# Altium integrated library Altium Database Library V2.IntLib: 825 symbols (part 35 of 40)

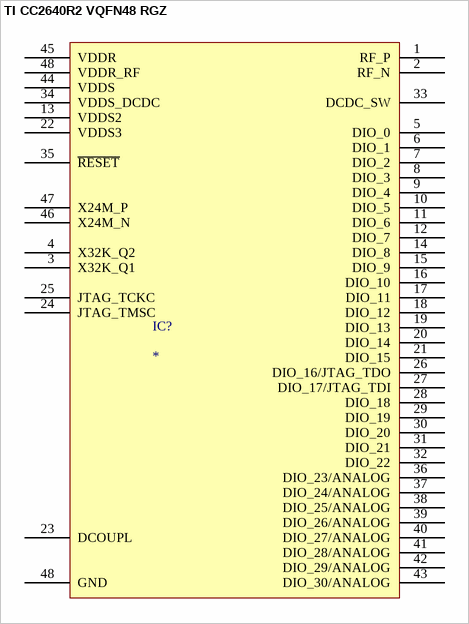
[diagram p702: symbol TI CC2640R2 VQFN48 RGZ]

## TI CC2640R2 VQFN48 RGZ
designator IC?
pins: 1 RF_P, 2 RF_N, 3 X32K_Q1, 4 X32K_Q2, 5 DIO_0, 6 DIO_1, 7 DIO_2, 8 DIO_3, 9 DIO_4, 10 DIO_5, 11 DIO_6, 12 DIO_7, 13 VDDS2, 14 DIO_8, 15 DIO_9, 16 DIO_10, 17 DIO_11, 18 DIO_12, 19 DIO_13, 20 DIO_14, 21 DIO_15, 22 VDDS3, 23 DCOUPL, 24 JTAG_TMSC, 25 JTAG_TCKC, 26 DIO_16/JTAG_TDO, 27 DIO_17/JTAG_TDI, 28 DIO_18, 29 DIO_19, 30 DIO_20, 31 DIO_21, 32 DIO_22, 33 DCDC_SW, 34 VDDS_DCDC, 35 ~{RESET}, 36 DIO_23/ANALOG, 37 DIO_24/ANALOG, 38 DIO_25/ANALOG, 39 DIO_26/ANALOG, 40 DIO_27/ANALOG, 41 DIO_28/ANALOG, 42 DIO_29/ANALOG, 43 DIO_30/ANALOG, 44 VDDS, 45 VDDR, 46 X24M_N, 47 X24M_P, 48 VDDR_RF, 48 GND


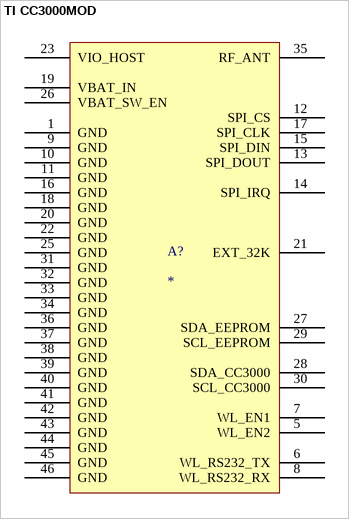
[diagram p703: symbol TI CC3000MOD]

## TI CC3000MOD
designator A?
pins: 1 GND, 5 WL_EN2, 6 WL_RS232_TX, 7 WL_EN1, 8 WL_RS232_RX, 9 GND, 10 GND, 11 GND, 12 SPI_CS, 13 SPI_DOUT, 14 SPI_IRQ, 15 SPI_DIN, 16 GND, 17 SPI_CLK, 18 GND, 19 VBAT_IN, 20 GND, 21 EXT_32K, 22 GND, 23 VIO_HOST, 25 GND, 26 VBAT_SW_EN, 27 SDA_EEPROM, 28 SDA_CC3000, 29 SCL_EEPROM, 30 SCL_CC3000, 31 GND, 32 GND, 33 GND, 34 GND, 35 RF_ANT, 36 GND, 37 GND, 38 GND, 39 GND, 40 GND, 41 GND, 42 GND, 43 GND, 44 GND, 45 GND, 46 GND, GND 40 hidden to Passive


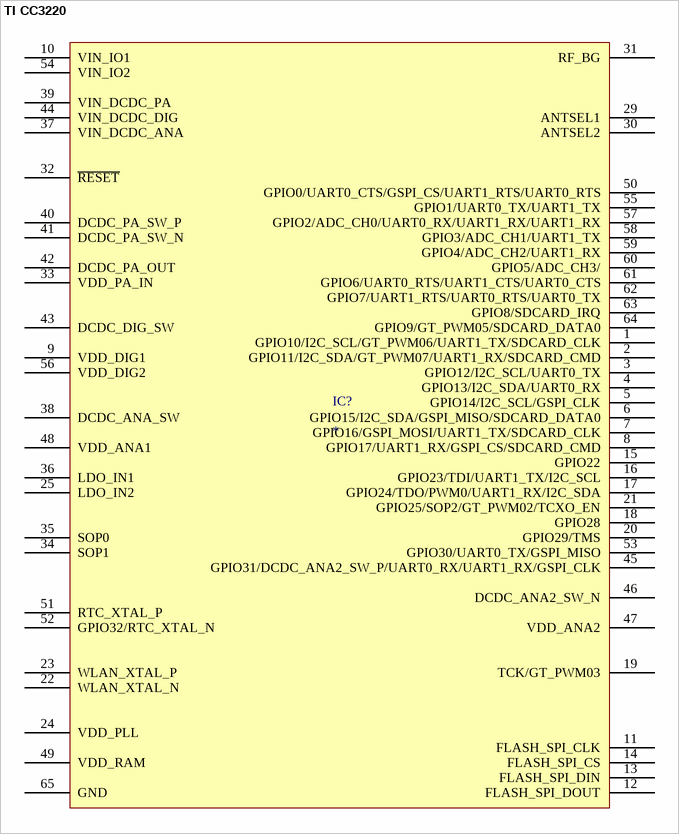
[diagram p704: symbol TI CC3220]

## TI CC3220
designator IC?
pins: 1 GPIO10/I2C_SCL/GT_PWM06/UART1_TX/SDCARD_CLK, 2 GPIO11/I2C_SDA/GT_PWM07/UART1_RX/SDCARD_CMD, 3 GPIO12/I2C_SCL/UART0_TX, 4 GPIO13/I2C_SDA/UART0_RX, 5 GPIO14/I2C_SCL/GSPI_CLK, 6 GPIO15/I2C_SDA/GSPI_MISO/SDCARD_DATA0, 7 GPIO16/GSPI_MOSI/UART1_TX/SDCARD_CLK, 8 GPIO17/UART1_RX/GSPI_CS/SDCARD_CMD, 9 VDD_DIG1, 10 VIN_IO1, 11 FLASH_SPI_CLK, 12 FLASH_SPI_DOUT, 13 FLASH_SPI_DIN, 14 FLASH_SPI_CS, 15 GPIO22, 16 GPIO23/TDI/UART1_TX/I2C_SCL, 17 GPIO24/TDO/PWM0/UART1_RX/I2C_SDA, 18 GPIO28, 19 TCK/GT_PWM03, 20 GPIO29/TMS, 21 GPIO25/SOP2/GT_PWM02/TCXO_EN, 22 WLAN_XTAL_N, 23 WLAN_XTAL_P, 24 VDD_PLL, 25 LDO_IN2, 29 ANTSEL1, 30 ANTSEL2, 31 RF_BG, 32 ~{RESET}, 33 VDD_PA_IN, 34 SOP1, 35 SOP0, 36 LDO_IN1, 37 VIN_DCDC_ANA, 38 DCDC_ANA_SW, 39 VIN_DCDC_PA, 40 DCDC_PA_SW_P, 41 DCDC_PA_SW_N, 42 DCDC_PA_OUT, 43 DCDC_DIG_SW, 44 VIN_DCDC_DIG, 45 GPIO31/DCDC_ANA2_SW_P/UART0_RX/UART1_RX/GSPI_CLK, 46 DCDC_ANA2_SW_N, 47 VDD_ANA2, 48 VDD_ANA1, 49 VDD_RAM, 50 GPIO0/UART0_CTS/GSPI_CS/UART1_RTS/UART0_RTS, 51 RTC_XTAL_P, 52 GPIO32/RTC_XTAL_N, 53 GPIO30/UART0_TX/GSPI_MISO, 54 VIN_IO2, 55 GPIO1/UART0_TX/UART1_TX, 56 VDD_DIG2, 57 GPIO2/ADC_CH0/UART0_RX/UART1_RX/UART1_RX, 58 GPIO3/ADC_CH1/UART1_TX, 59 GPIO4/ADC_CH2/UART1_RX, 60 GPIO5/ADC_CH3/, 61 GPIO6/UART0_RTS/UART1_CTS/UART0_CTS, 62 GPIO7/UART1_RTS/UART0_RTS/UART0_TX, 63 GPIO8/SDCARD_IRQ, 64 GPIO9/GT_PWM05/SDCARD_DATA0, 65 GND


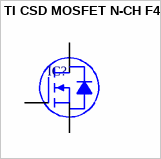
[diagram p705: symbol TI CSD MOSFET N-CH F4]

## TI CSD MOSFET N-CH F4
designator IC?
pins: D, G, S


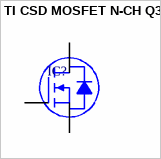
[diagram p706: symbol TI CSD MOSFET N-CH Q3]

## TI CSD MOSFET N-CH Q3
designator IC?
pins: 1 S, 2 S, 3 S, 4 G, 5 D, 6 D, 7 D, 8 D


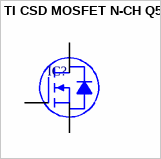
[diagram p707: symbol TI CSD MOSFET N-CH Q5]

## TI CSD MOSFET N-CH Q5
designator IC?
pins: 1 S, 2 S, 3 S, 4 G, 5 D, 6 D, 7 D, 8 D


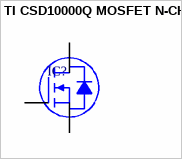
[diagram p708: symbol TI CSD10000Q MOSFET N-CH]

## TI CSD10000Q MOSFET N-CH
designator IC?
pins: 1 S, 2 S, 3 S, 4 G, 5 D, 6 D, 7 D, 8 D


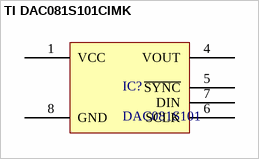
[diagram p709: symbol TI DAC081S101CIMK]

## TI DAC081S101CIMK
designator IC?, comment DAC081S101
DAC081S101 8-Bit Micro Power Digital-to-Analog Converter with Rail-to-Rail Output
pins: 1 VCC, 4 VOUT, 5 ~{SYNC}, 6 SCLK, 7 DIN, 8 GND


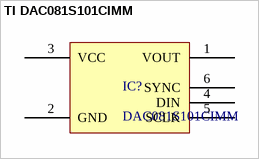
[diagram p710: symbol TI DAC081S101CIMM]

## TI DAC081S101CIMM
designator IC?, comment DAC081S101CIMM
DAC081S101 8-Bit Micro Power Digital-to-Analog Converter with Rail-to-Rail Output
pins: 1 VOUT, 2 GND, 3 VCC, 4 DIN, 5 SCLK, 6 SYNC


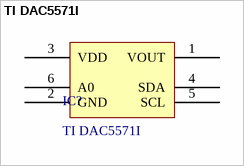
[diagram p711: symbol TI DAC5571I]

## TI DAC5571I
designator IC?
+2.7 V to +5.5 V, I2C INTERFACE, VOLTAGE OUTPUT,  8-BIT DIGITAL-TO-ANALOG CONVERTER
pins: 1 VOUT, 2 GND, 3 VDD, 4 SDA, 5 SCL, 6 A0


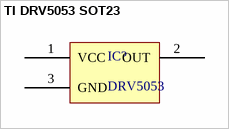
[diagram p712: symbol TI DRV5053 SOT23]

## TI DRV5053 SOT23
designator IC?, comment DRV5053
pins: 1 VCC, 2 OUT, 3 GND


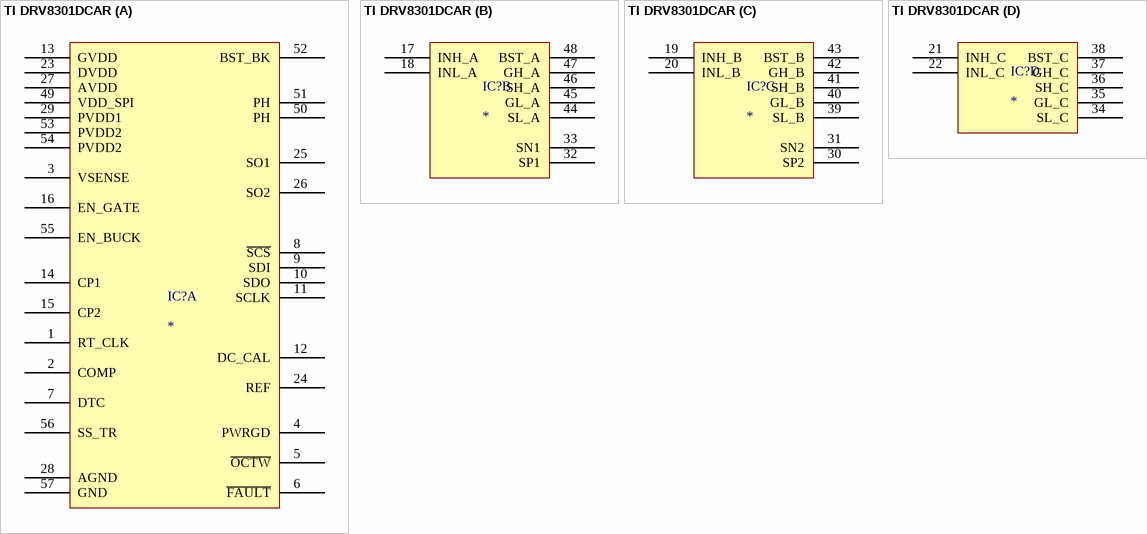
[diagram p713: symbol TI DRV8301DCAR]

## TI DRV8301DCAR
designator IC?
part A pins: 1 RT_CLK, 2 COMP, 3 VSENSE, 4 PWRGD, 5 ~{OCTW}, 6 ~{FAULT}, 7 DTC, 8 ~{SCS}, 9 SDI, 10 SDO, 11 SCLK, 12 DC_CAL, 13 GVDD, 14 CP1, 15 CP2, 16 EN_GATE, 23 DVDD, 24 REF, 25 SO1, 26 SO2, 27 AVDD, 28 AGND, 29 PVDD1, 49 VDD_SPI, 50 PH, 51 PH, 52 BST_BK, 53 PVDD2, 54 PVDD2, 55 EN_BUCK, 56 SS_TR, 57 GND
part B pins: 17 INH_A, 18 INL_A, 32 SP1, 33 SN1, 44 SL_A, 45 GL_A, 46 SH_A, 47 GH_A, 48 BST_A
part C pins: 19 INH_B, 20 INL_B, 30 SP2, 31 SN2, 39 SL_B, 40 GL_B, 41 SH_B, 42 GH_B, 43 BST_B
part D pins: 21 INH_C, 22 INL_C, 34 SL_C, 35 GL_C, 36 SH_C, 37 GH_C, 38 BST_C


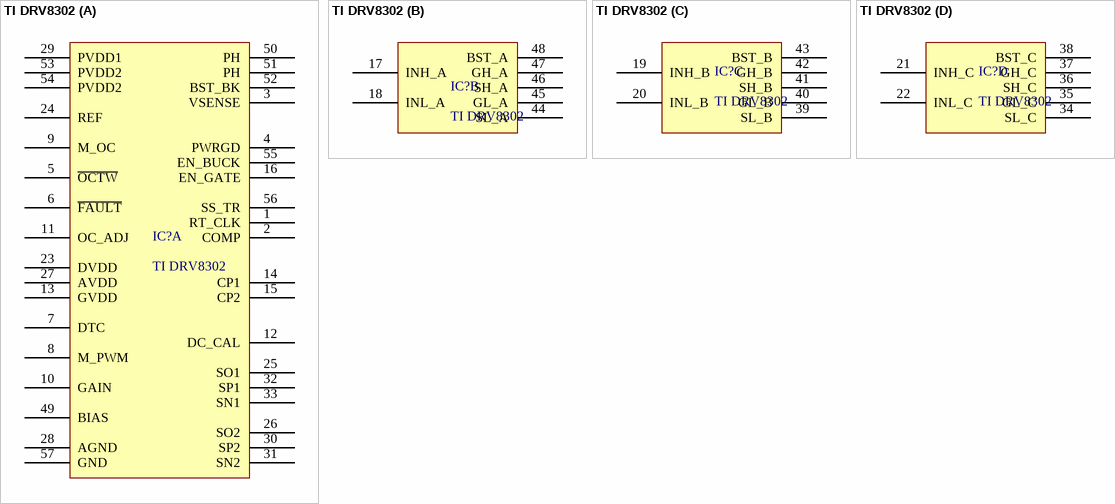
[diagram p714: symbol TI DRV8302]

## TI DRV8302
designator IC?
Three Phase Pre-Driver with Dual Current Shunt Amplifiers and Buck Regulator-Hardware Controlled
part A pins: 1 RT_CLK, 2 COMP, 3 VSENSE, 4 PWRGD, 5 ~{OCTW}, 6 ~{FAULT}, 7 DTC, 8 M_PWM, 9 M_OC, 10 GAIN, 11 OC_ADJ, 12 DC_CAL, 13 GVDD, 14 CP1, 15 CP2, 16 EN_GATE, 23 DVDD, 24 REF, 25 SO1, 26 SO2, 27 AVDD, 28 AGND, 29 PVDD1, 30 SP2, 31 SN2, 32 SP1, 33 SN1, 49 BIAS, 50 PH, 51 PH, 52 BST_BK, 53 PVDD2, 54 PVDD2, 55 EN_BUCK, 56 SS_TR, 57 GND
part B pins: 17 INH_A, 18 INL_A, 44 SL_A, 45 GL_A, 46 SH_A, 47 GH_A, 48 BST_A
part C pins: 19 INH_B, 20 INL_B, 39 SL_B, 40 GL_B, 41 SH_B, 42 GH_B, 43 BST_B
part D pins: 21 INH_C, 22 INL_C, 34 SL_C, 35 GL_C, 36 SH_C, 37 GH_C, 38 BST_C


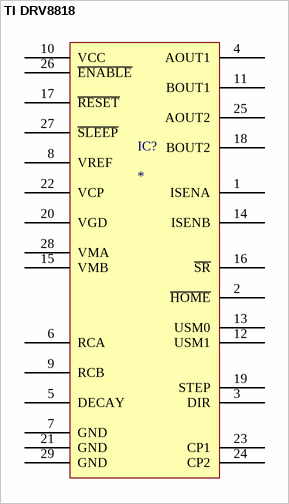
[diagram p715: symbol TI DRV8818]

## TI DRV8818
designator IC?
pins: 1 ISENA, 2 ~{HOME}, 3 DIR, 4 AOUT1, 5 DECAY, 6 RCA, 7 GND, 8 VREF, 9 RCB, 10 VCC, 11 BOUT1, 12 USM1, 13 USM0, 14 ISENB, 15 VMB, 16 ~{SR}, 17 ~{RESET}, 18 BOUT2, 19 STEP, 20 VGD, 21 GND, 22 VCP, 23 CP1, 24 CP2, 25 AOUT2, 26 ~{ENABLE}, 27 ~{SLEEP}, 28 VMA, 29 GND


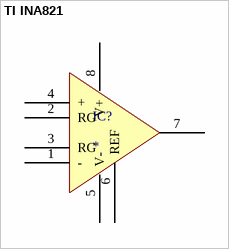
[diagram p716: symbol TI INA821]

## TI INA821
designator IC?
pins: 1 -, 2 RG, 3 RG, 4 +, 5 V-, 6 REF, 7 OUT, 8 V+


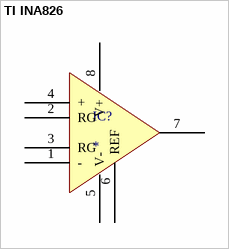
[diagram p717: symbol TI INA826]

## TI INA826
designator IC?
pins: 1 -, 2 RG, 3 RG, 4 +, 5 V-, 6 REF, 7 OUT, 8 V+


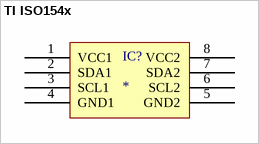
[diagram p718: symbol TI ISO154x]

## TI ISO154x
designator IC?
pins: 1 VCC1, 2 SDA1, 3 SCL1, 4 GND1, 5 GND2, 6 SCL2, 7 SDA2, 8 VCC2


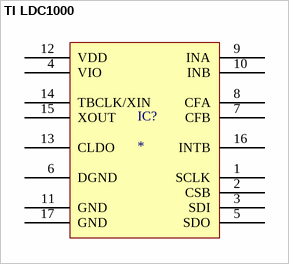
[diagram p719: symbol TI LDC1000]

## TI LDC1000
designator IC?
pins: 1 SCLK, 2 CSB, 3 SDI, 4 VIO, 5 SDO, 6 DGND, 7 CFB, 8 CFA, 9 INA, 10 INB, 11 GND, 12 VDD, 13 CLDO, 14 TBCLK/XIN, 15 XOUT, 16 INTB, 17 GND


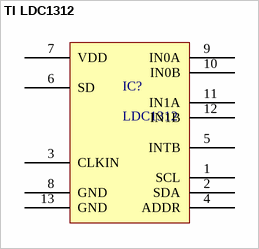
[diagram p720: symbol TI LDC1312]

## TI LDC1312
designator IC?, comment LDC1312
pins: 1 SCL, 2 SDA, 3 CLKIN, 4 ADDR, 5 INTB, 6 SD, 7 VDD, 8 GND, 9 IN0A, 10 IN0B, 11 IN1A, 12 IN1B, 13 GND


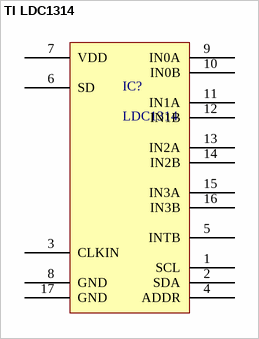
[diagram p721: symbol TI LDC1314]

## TI LDC1314
designator IC?, comment LDC1314
pins: 1 SCL, 2 SDA, 3 CLKIN, 4 ADDR, 5 INTB, 6 SD, 7 VDD, 8 GND, 9 IN0A, 10 IN0B, 11 IN1A, 12 IN1B, 13 IN2A, 14 IN2B, 15 IN3A, 16 IN3B, 17 GND


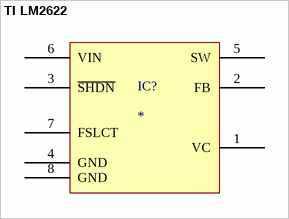
[diagram p722: symbol TI LM2622]

## TI LM2622
designator IC?
pins: 1 VC, 2 FB, 3 ~{SHDN}, 4 GND, 5 SW, 6 VIN, 7 FSLCT, 8 GND


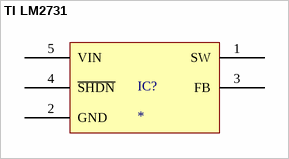
[diagram p723: symbol TI LM2731]

## TI LM2731
designator IC?
pins: 1 SW, 2 GND, 3 FB, 4 ~{SHDN}, 5 VIN


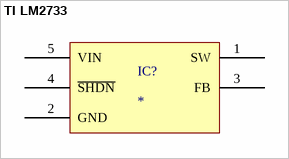
[diagram p724: symbol TI LM2733]

## TI LM2733
designator IC?
pins: 1 SW, 2 GND, 3 FB, 4 ~{SHDN}, 5 VIN
